# Altium footprint library SON9P50_300X300X80L40X25T244X160N.PcbLib: 1 footprints
Each footprint in its own frame and in the unit in brackets; x right, y up, seen from the top. Pads: shape width x height; smd on the part's side, far side on the other; paste and mask are expansions set on the pad; w line width, h text height; cw(c..) or ccw(c..) is an arc to the next point about the centre after c.
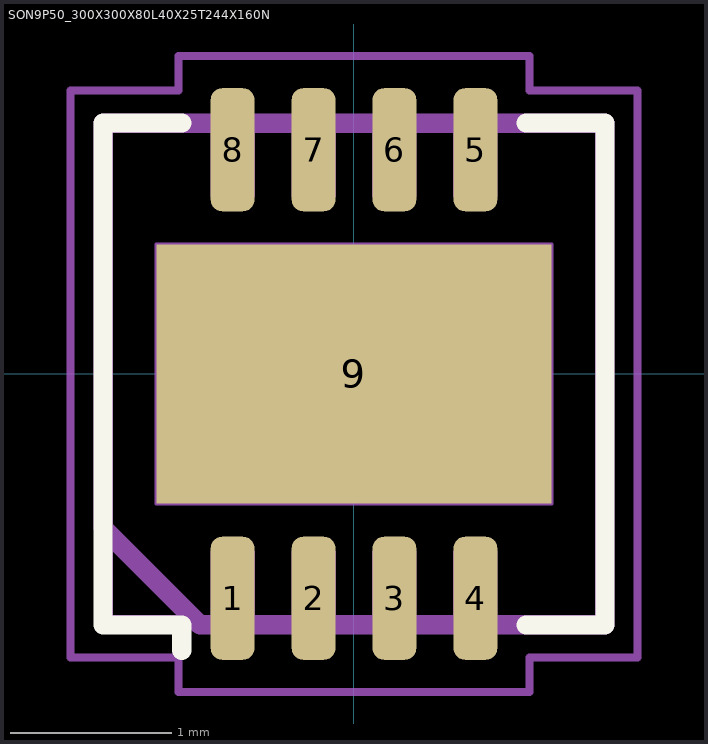
[diagram p0: the footprint, top view; thin cyan lines are the x and y axes]

## SON9P50_300X300X80L40X25T244X160N [mm] "Small Outline No-Lead (SON with Tab), 0.50 mm pitch; 8 pin, 3.00 mm L X 3.00 mm W X 0.80 mm H body"
height 0.8
pads (9):
  rrect52% 0.27x0.76 smd: 1(-0.75,-1.385) 2(-0.25,-1.385) 3(0.25,-1.385) 4(0.75,-1.385) 5(0.75,1.385) 6(0.25,1.385) 7(-0.25,1.385) 8(-0.75,1.385)
  rect 2.44x1.6 smd paste-2.44: 9(0,0)
Top Overlay:
  lines w0.12: -1.065,-1.705 -1.065,-1.55 -1.55,-1.55 -1.55,1.55 -1.065,1.55 ; 1.065,-1.55 1.55,-1.55 1.55,1.55 1.065,1.55
Top Paste:
  region: -0.14,0.14 -1.08,0.14 -1.08,0.66 -0.14,0.66
  region: -0.14,-0.66 -1.08,-0.66 -1.08,-0.14 -0.14,-0.14
  region: 1.08,0.14 0.14,0.14 0.14,0.66 1.08,0.66
  region: 1.08,-0.66 0.14,-0.66 0.14,-0.14 1.08,-0.14
Mechanical 3:
  lines w0.12: -1.55,-0.95 -1.55,1.55 1.55,1.55 1.55,-1.55 -0.95,-1.55 -1.55,-0.95
Mechanical 5:
  lines w0.025: -1.5,-1.5 1.5,-1.5 1.5,1.5 -1.5,1.5 -1.5,-1.5 ; -1.22,-0.8 -1.22,0.8 1.22,0.8 1.22,-0.8 -1.22,-0.8 ; -0.875,-1.5 -0.875,-1.1 -0.625,-1.1 -0.625,-1.5 -0.875,-1.5 ; -0.875,1.1 -0.875,1.5 -0.625,1.5 -0.625,1.1 -0.875,1.1 ; -0.375,-1.5 -0.375,-1.1 -0.125,-1.1 -0.125,-1.5 -0.375,-1.5 ; -0.375,1.1 -0.375,1.5 -0.125,1.5 -0.125,1.1 -0.375,1.1 ; 0.125,-1.5 0.125,-1.1 0.375,-1.1 0.375,-1.5 0.125,-1.5 ; 0.125,1.1 0.125,1.5 0.375,1.5 0.375,1.1 0.125,1.1 ; 0.625,-1.5 0.625,-1.1 0.875,-1.1 0.875,-1.5 0.625,-1.5 ; 0.625,1.1 0.625,1.5 0.875,1.5 0.875,1.1 0.625,1.1
Mechanical 7:
  circle w0.05: c0,0 r0.25
  lines w0.05: -0.35,0 0.35,0 ; 0,-0.35 0,0.35 ; -1.75,-1.75 -1.085,-1.75 -1.085,-1.965 1.085,-1.965 1.085,-1.75 1.75,-1.75 1.75,1.75 1.085,1.75 1.085,1.965 -1.085,1.965 -1.085,1.75 -1.75,1.75 -1.75,-1.75
Mechanical 9:
  text "'.Designator'" at -4.33,-0.304 h1
3D body: height 2, standoff 0.05, extent -1.75,-1.975 1.75,1.975
3D body "SON9P50_300X300X80L40X25T244X160.STEP": height 0.8, standoff 0, extent -1.5,-1.55 1.5,1.55
3D body: height 1.04, standoff 0, extent -1.75,-1.965 1.75,1.965